# Altium footprint library Varistor.PcbLib: 3 footprints
Each footprint in its own frame and in the unit in brackets; x right, y up, seen from the top. Pads: shape width x height; smd on the part's side, far side on the other; paste and mask are expansions set on the pad; w line width, h text height; cw(c..) or ccw(c..) is an arc to the next point about the centre after c.
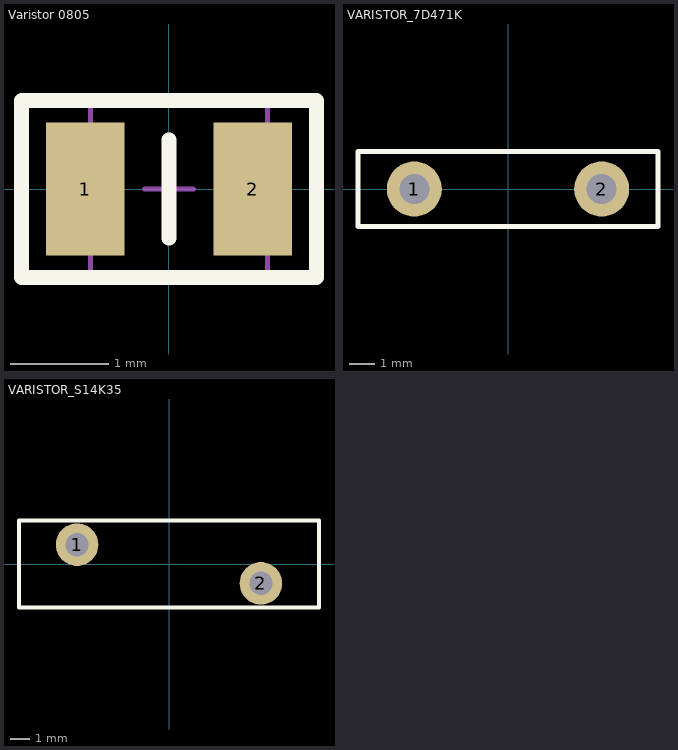
[diagram p0: the footprints below, top view; thin cyan lines are the x and y axes]

## Varistor 0805 [mm] "Varistor 0805"
pads (2):
  rect 0.8x1.35 smd mask+0.07: 1(-0.85,0) 2(0.85,0)
Top Overlay:
  lines w0.15: 0,-0.5 0,0.5 ; -1.5,-0.9 1.5,-0.9 1.5,0.9 -1.5,0.9 -1.5,-0.9
Top HCB:
  lines w0.05: -0.8,-0.9 -0.8,0.9 ; -0.25,0 0.25,0 ; 0,-0.25 0,0.25 ; 1,-0.9 1,0.9 ; -1.5,-0.9 -1.5,0.9 1.5,0.9 1.5,-0.9 -1.5,-0.9
3D body "User Library-Chip InductorINDC2012X130N.step": height 1.18, standoff -0.02, extent -1,-0.65 1,0.65

## VARISTOR_7D471K [mm] "MOV-7D471K, Varistors 7D471K 300V"
pads (2):
  round 2.2 hole 1.2: 1(-3.75,0) 2(3.75,0)
Top Overlay:
  lines w0.2: -6,-1.5 -6,1.5 6,1.5 6,-1.5 -6,-1.5
3D body "User Library-final MOV7,5.step": height 16, standoff -2.5, extent -5.801,-0.95 5.5,0.9

## VARISTOR_S14K35 [mm]
pads (2):
  round 2.2 hole 1.2: 1(-4.75,1) 2(4.75,-1)
Top Overlay:
  lines w0.2: -7.75,-2.25 7.75,-2.25 7.75,2.25 -7.75,2.25 -7.75,-2.25
3D body "User Library-S14K25 MOV.step": height 18.5, standoff -3, extent -7.75,-2.1 7.75,2.1